# Altium footprint library Laser Controller.PcbLib: 41 footprints (part 2 of 3)
Each footprint in its own frame and in the unit in brackets; x right, y up, seen from the top. Pads: shape width x height; smd on the part's side, far side on the other; paste and mask are expansions set on the pad; w line width, h text height; cw(c..) or ccw(c..) is an arc to the next point about the centre after c.
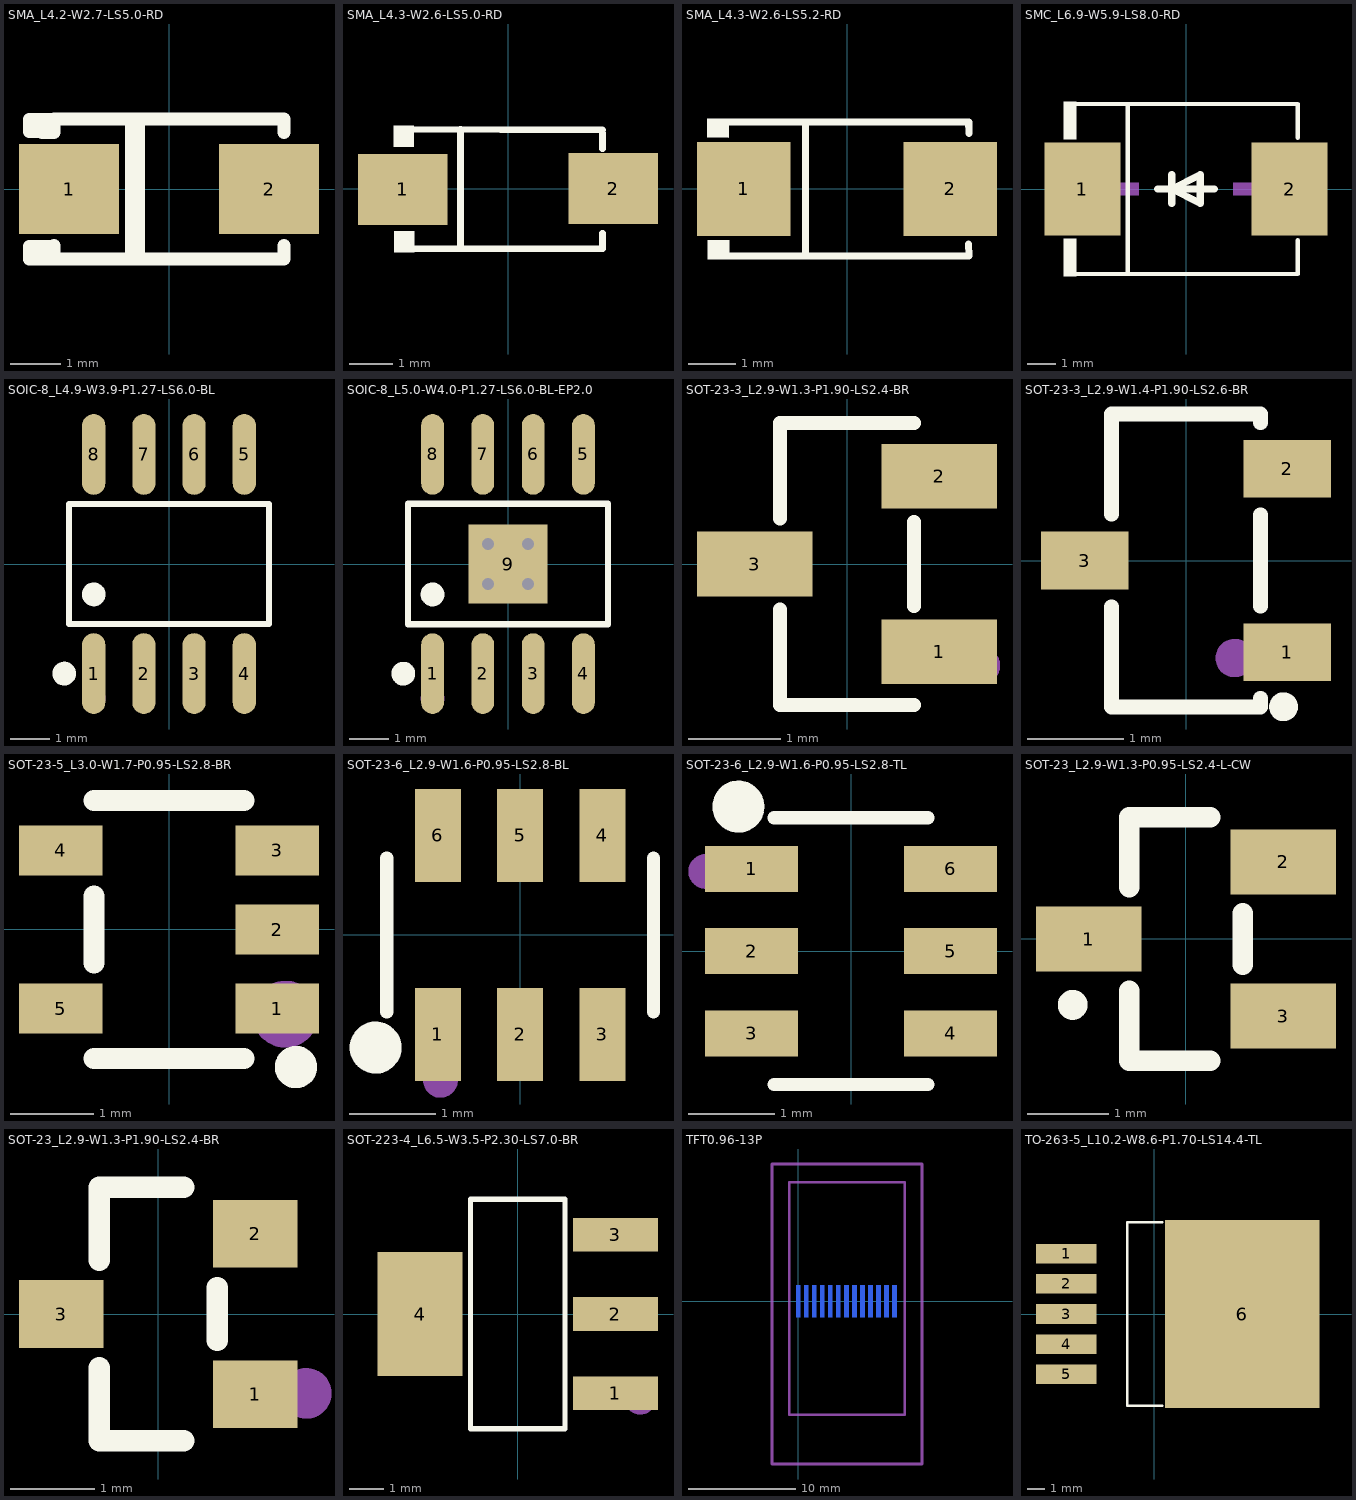
[diagram p1: the footprints below, top view; thin cyan lines are the x and y axes]

## SMA_L4.2-W2.7-LS5.0-RD [mm]
pads (2):
  rect 2x1.8 smd: 1(-2,0) 2(2,0)
Top Overlay:
  lines w0.254: -2.64,-1.4 -2.64,-1.143 ; -2.54,1.131 -2.3,1.131 -2.3,1.4 2.3,1.4 2.3,1.131 ; -2.454,-1.4 -2.454,-1.143 ; -2.3,-1.143 -2.794,-1.143 -2.794,-1.4 -2.3,-1.4 ; -2.3,-1.131 -2.3,-1.4 ; -2.3,1.397 -2.54,1.397 ; -0.756,-1.4 -0.756,1.4 ; -0.603,-1.4 -0.603,1.4 ; 2.3,-1.131 2.3,-1.4 -2.3,-1.4 ; -2.54,1.397 -2.794,1.397 -2.794,1.143 -2.54,1.143 -2.54,1.397
Mechanical 15:
  region: -2.794,0.254 -2.794,-0.127 -1.27,-0.127 -1.27,0.254
  region: 1.397,0.254 1.397,-0.127 2.794,-0.127 2.794,0.254
  region: 1.905,-0.635 2.286,-0.635 2.286,0.762 1.905,0.762

## SMA_L4.3-W2.6-LS5.0-RD [mm]
pads (2):
  rect 2.046x1.62 smd: 1(-2.404,-0.009) 2(2.404,0.009)
Top Overlay:
  region: -2.158,1.44 -2.158,0.962 -2.615,0.962 -2.615,1.44
  region: -2.145,-1.44 -2.145,-0.962 -2.602,-0.962 -2.602,-1.44
  lines w0.152: -2.526,1.364 2.159,1.346 ; -2.504,-1.364 2.165,-1.364 ; -1.085,-1.364 -1.085,1.364 ; 2.159,-1.364 2.159,-1.013 ; 2.159,0.919 2.159,1.27
Mechanical 15:
  region: -2.432,-0.097 -2.432,0.097 -1.659,0.097 -1.659,-0.097
  region: 2.432,-0.097 2.432,0.097 1.659,0.097 1.659,-0.097
  region: 2.142,-0.644 2.142,0.644 1.949,0.644 1.949,-0.644

## SMA_L4.3-W2.6-LS5.2-RD [mm]
pads (2):
  rect 2x2 smd: 1(-2.2,0) 2(2.2,0)
Top Overlay:
  region: -2.512,-1.096 -2.513,-1.503 -2.973,-1.498 -2.969,-1.096
  region: -2.52,1.502 -2.521,1.096 -2.981,1.1 -2.977,1.502
  lines w0.152: -2.596,-1.426 2.596,-1.426 ; -2.596,1.426 2.596,1.426 2.603,1.187 ; -0.884,-1.426 -0.884,1.426 ; 2.593,-1.176 2.6,-1.415
Mechanical 15:
  region: 2.014,-0.675 2.014,0.675 1.811,0.675 1.811,-0.675
  region: 2.29,-0.09 2.29,0.112 1.48,0.112 1.48,-0.09
  region: -2.317,-0.101 -2.317,0.101 -1.507,0.101 -1.507,-0.101

## SMC_L6.9-W5.9-LS8.0-RD [mm]
pads (2):
  rect 2.7x3.3 smd: 1(-3.686,0) 2(3.686,0)
Top Overlay:
  region: -3.9,-3.102 -3.9,-1.772 -4.357,-1.772 -4.357,-3.102
  region: -3.9,3.102 -3.9,1.772 -4.357,1.772 -4.357,3.102
  lines w0.152: -3.976,-3.026 3.976,-3.026 3.976,-1.823 ; -3.976,3.026 3.976,3.026 3.976,1.823 ; -2.069,-3.026 -2.069,3.026
  lines w0.254: -1.016,0 1.016,0 ; -0.508,0.508 -0.508,-0.508 -0.508,0 ; -0.508,0 0.508,-0.508 0.508,0.508 -0.508,0
Mechanical 15:
  region: 2.794,-1.475 2.794,1.475 2.351,1.475 2.351,-1.475
  region: 3.457,-0.221 3.457,0.221 1.687,0.221 1.687,-0.221
  region: -3.458,-0.221 -3.458,0.221 -1.688,0.221 -1.688,-0.221

## SOIC-8_L4.9-W3.9-P1.27-LS6.0-BL [mm]
pads (8):
  oval 0.588x2.045 smd: 1(-1.905,-2.773) 2(-0.635,-2.773) 3(0.635,-2.773) 4(1.905,-2.773) 5(1.905,2.773) 6(0.635,2.773) 7(-0.635,2.773) 8(-1.905,2.773)
Top Overlay:
  circle w0.3: c-1.905,-0.769 r0.15
  circle w0.3: c-2.652,-2.772 r0.15
  lines w0.152: -2.526,-1.521 -2.526,1.521 2.526,1.521 2.526,-1.521 -2.526,-1.521
Mechanical 15:
  circle w0.3: c-1.905,-3.4 r0.15

## SOIC-8_L5.0-W4.0-P1.27-LS6.0-BL-EP2.0 [mm]
pads (9):
  oval 0.574x2.038 smd: 1(-1.905,-2.769) 2(-0.635,-2.769) 3(0.635,-2.769) 4(1.905,-2.769) 5(1.905,2.769) 6(0.635,2.769) 7(-0.635,2.769) 8(-1.905,2.769)
  rect 2x2 smd: 9(0,0)
via 0.5,-0.5 diameter 0.61 hole 0.305
via -0.5,-0.5 diameter 0.61 hole 0.305
via -0.5,0.5 diameter 0.61 hole 0.305
via 0.5,0.5 diameter 0.61 hole 0.305
Top Overlay:
  circle w0.3: c-2.644,-2.769 r0.15
  circle w0.3: c-1.905,-0.769 r0.15
  lines w0.152: -2.526,-1.521 2.526,-1.521 2.526,1.521 -2.526,1.521 -2.526,-1.521
Mechanical 15:
  circle w0.3: c-1.905,-3.4 r0.15

## SOT-23-3_L2.9-W1.3-P1.90-LS2.4-BR [mm]
pads (3):
  rect 1.25x0.7 smd: 1(1,-0.95) 2(1,0.95) 3(-1,0)
Top Overlay:
  lines w0.152: -0.726,-0.495 -0.726,-1.526 0.726,-1.526 ; -0.726,0.495 -0.726,1.526 0.726,1.526 ; 0.726,-0.455 0.726,0.455
Mechanical 15:
  circle w0.2: c1.46,-1.1 r0.1

## SOT-23-3_L2.9-W1.4-P1.90-LS2.6-BR [mm]
pads (3):
  rect 0.91x0.6 smd: 1(1.055,-0.955) 2(1.055,0.955) 3(-1.055,0)
Top Overlay:
  circle w0.15: c1.016,-1.524 r0.075
  lines w0.152: -0.776,-0.48 -0.776,-1.526 0.776,-1.526 0.776,-1.435 ; -0.776,0.48 -0.776,1.526 0.776,1.526 0.776,1.435 ; 0.776,-0.475 0.776,0.475
Mechanical 15:
  circle w0.2: c0.508,-1.016 r0.1

## SOT-23-5_L3.0-W1.7-P0.95-LS2.8-BR [mm]
pads (5):
  rect 1x0.6 smd: 1(1.3,-0.95) 2(1.3,0) 3(1.3,0.95) 4(-1.3,0.95) 5(-1.3,-0.95)
Top Overlay:
  circle w0.254: c1.524,-1.651 r0.127
  lines w0.254: -0.9,-1.55 0.9,-1.55 ; -0.9,-0.4 -0.9,0.4 ; -0.9,1.55 0.9,1.55
Mechanical 15:
  circle w0.4: c1.397,-1.016 r0.2

## SOT-23-6_L2.9-W1.6-P0.95-LS2.8-BL [mm]
pads (6):
  rect 0.532x1.072 smd: 1(-0.95,-1.149) 2(0,-1.149) 3(0.95,-1.149) 4(0.95,1.149) 5(0,1.149) 6(-0.95,1.149)
Top Overlay:
  circle w0.3: c-1.668,-1.301 r0.15
  lines w0.152: -1.539,-0.889 -1.539,0.889 ; 1.539,-0.889 1.539,0.889
Mechanical 15:
  circle w0.2: c-0.92,-1.68 r0.1

## SOT-23-6_L2.9-W1.6-P0.95-LS2.8-TL [mm]
pads (6):
  rect 1.072x0.532 smd: 1(-1.149,0.95) 2(-1.149,0) 3(-1.149,-0.95) 4(1.149,-0.95) 5(1.149,0) 6(1.149,0.95)
Top Overlay:
  circle w0.3: c-1.301,1.668 r0.15
  lines w0.152: -0.889,-1.539 0.889,-1.539 ; -0.889,1.539 0.889,1.539
Mechanical 15:
  circle w0.2: c-1.68,0.92 r0.1

## SOT-23_L2.9-W1.3-P0.95-LS2.4-L-CW [mm]
pads (3):
  rect 1.3x0.8 smd: 1(-1.2,0) 2(1.2,0.95) 3(1.2,-0.95)
Top Overlay:
  circle w0.254: c-1.397,-0.813 r0.057
  lines w0.254: -0.7,-0.636 -0.7,-1.5 0.3,-1.5 ; -0.7,0.636 -0.7,1.5 0.3,1.5 ; 0.7,-0.314 0.7,0.314

## SOT-23_L2.9-W1.3-P1.90-LS2.4-BR [mm]
pads (3):
  rect 1x0.8 smd: 1(1.15,-0.95) 2(1.15,0.95) 3(-1.15,0)
Top Overlay:
  lines w0.254: -0.7,-0.636 -0.7,-1.5 0.3,-1.5 ; -0.7,0.636 -0.7,1.5 0.3,1.5 ; 0.7,-0.314 0.7,0.314
Mechanical 15:
  circle w0.3: c1.753,-0.94 r0.15

## SOT-223-4_L6.5-W3.5-P2.30-LS7.0-BR [mm]
pads (4):
  rect 2.47x0.98 smd: 1(2.835,-2.3) 2(2.835,0) 3(2.835,2.3)
  rect 2.47x3.6 smd: 4(-2.835,0)
Top Overlay:
  lines w0.152: -1.371,-3.326 -1.371,3.326 1.371,3.326 1.371,-3.326 -1.371,-3.326
Mechanical 15:
  circle w0.5: c3.556,-2.413 r0.25

## TFT0.96-13P [mm] "长28mm，宽14mm，脚距0.75mm"
pads (13):
  rect 0.4x3 smd far side: 1(0,0) 2(0.75,0) 3(1.5,0) 4(2.25,0) 5(3,0) 6(3.75,0) 7(4.5,0) 8(5.25,0) 9(6,0) 10(6.75,0) 11(7.5,0) 12(8.25,0) 13(9,0)
Bottom Overlay:
  lines w0.254: -1.427,-2.489 -1.427,0.011 -1.427,2.511 10.422,2.511 ; -1.405,-2.511 10.444,-2.511 10.444,-0.011 10.444,2.489
Mechanical 15:
  lines w0.254: -2.443,-15.181 -2.443,12.819 11.557,12.819 11.557,-15.181 -2.443,-15.181 ; -0.843,-10.581 9.957,-10.581 9.957,11.119 -0.843,11.119 -0.843,-10.581

## TO-263-5_L10.2-W8.6-P1.70-LS14.4-TL [mm]
pads (6):
  rect 3.4x1.1 smd: 1(-4.953,3.4) 2(-4.953,1.7) 3(-4.953,0) 4(-4.953,-1.7) 5(-4.953,-3.4)
  rect 8.705x10.587 smd: 6(4.953,0)
Top Overlay:
  lines w0.152: 0.448,-5.166 -1.516,-5.166 -1.516,5.166 0.448,5.166
Mechanical 15:
  circle w0.42: c-6.096,3.429 r0.21